# EAGLE library part JTAG (library xilinx_xc95XXXxl)
PIN HEADER
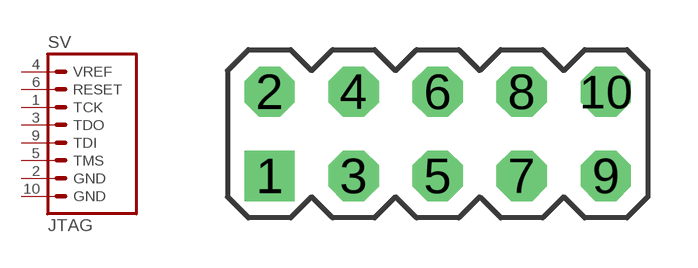
[diagram p5: symbol with the pads of JTAG; footprint JTAG]

Designator prefix SV

## JTAG (OC_FARNELL: unknown; OC_NEWARK: unknown)  [JTAG]
1  TCK  out
2  GND  pwr
3  TDO  out
4  VREF  pwr
5  TMS  out
6  RESET  out
9  TDI  in
10  GND  pwr

## Footprint JTAG (pad centres in mm)
PIN HEADER
drill 1.016 square: 1 -5.08,-1.27
drill 1.016 octagon: 2 -5.08,1.27; 3 -2.54,-1.27; 4 -2.54,1.27; 5 0,-1.27; 6 0,1.27; 7 2.54,-1.27; 8 2.54,1.27; 9 5.08,-1.27; 10 5.08,1.27